# Altium integrated library Analog Devices Operational Amplifiers.IntLib: 2102 symbols (part 31 of 70)
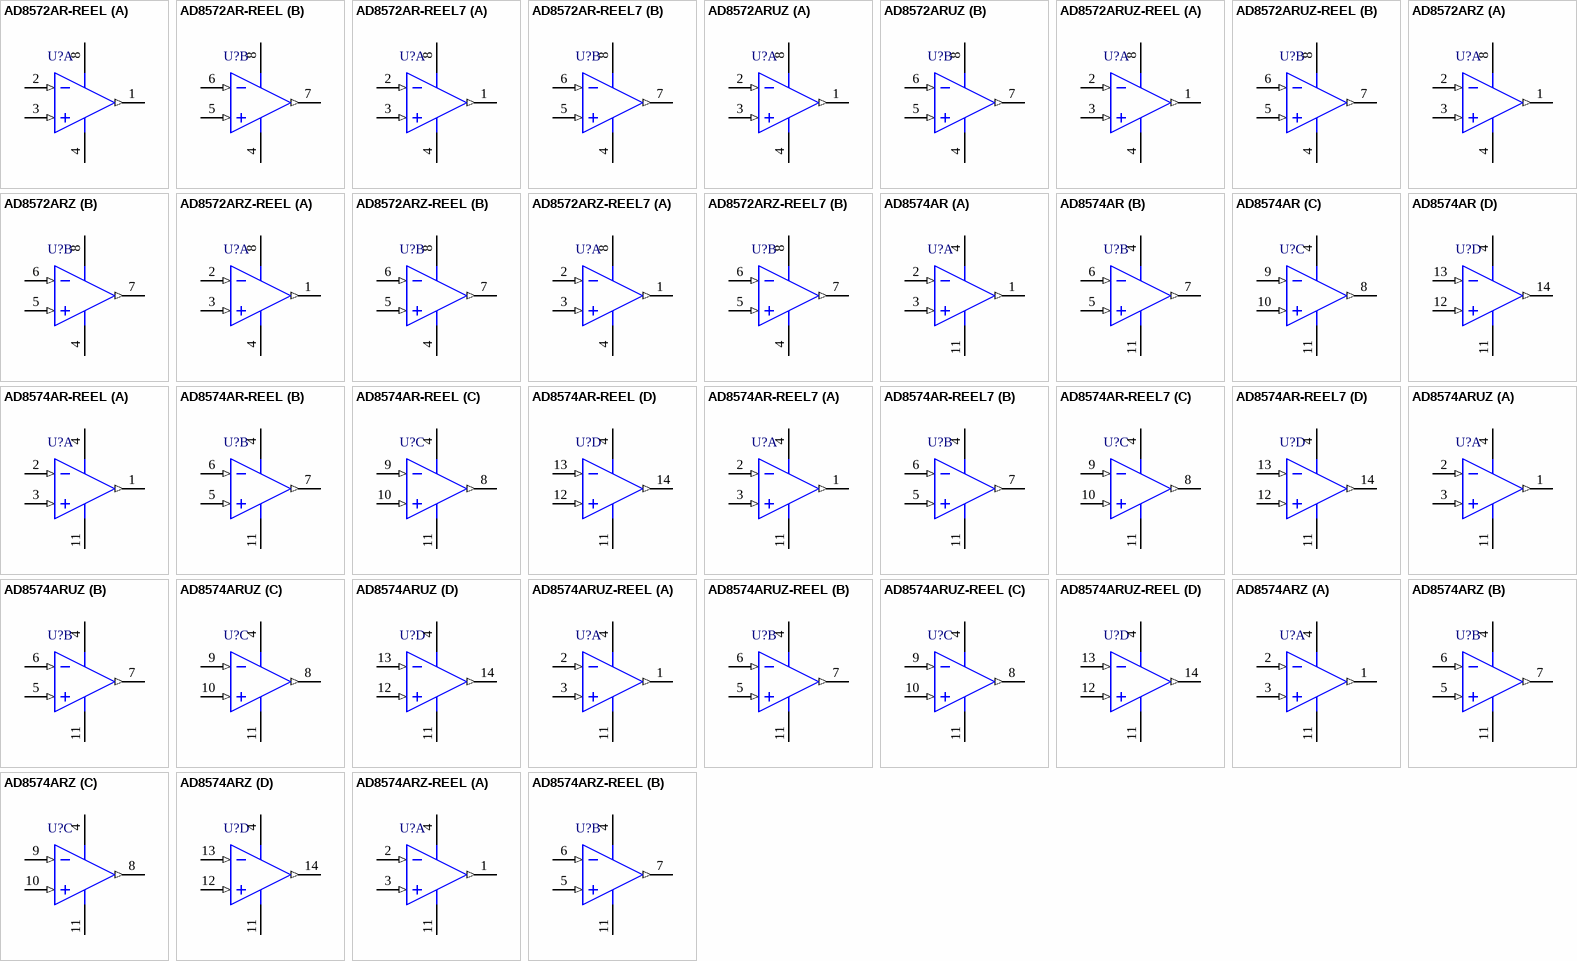
[diagram p144: symbols AD8572AR-REEL to AD8574ARZ-REEL]

## AD8574ARZ
designator U?
Quad Channel Rail-to-Rail Operational Amplifier, 1.5 MHz BW, 400 mV/us SR, Industrial, 14-pin SOIC (R-14), Tube; Generic Part Number: AD8574; Manufacturer: Analog Devices; PartNumber: AD8574ARZ; Amplifiers Per Package: 4; Input Bias Current: 10pA; Input Offset Voltage: 1uV; Iq/Amp: 975uA; Small Signal Bandwidth: 1.5MHz; V Span Max: 6V; V Span Min: 2.7V; DatasheetVersion: Rev. E; PackageVersion: 060606-A; PackageReference: R-14; PackageDescription: 14-Pin Standard Small Outline Package, Body 8.65 x 3.9 mm, Pitch 1.27 mm; Supplier 1: Digi-Key; Supplier Part Number 1: AD8574ARZ-ND; Supplier 2: Farnell; Supplier Part Number 2: 9604294; Supplier 3: Newark; Supplier Part Number 3: 19M0971; Slew Rate: 400mV/us; Mounting Technology: Surface Mount; Code_JEDEC: MS-012-AB; ComponentLink1Description: Manufacturer URL; ComponentLink1URL: http://www.analog.com/en/index.html; ComponentLink2Description: Datasheet; ComponentLink2URL: http://www.analog.com/static/imported-files/data_sheets/AD8571_8572_8574.pdf; ComponentLink3Description: Package Specification; ComponentLink3URL: http://www.analog.com/static/imported-files/packages/PKG_PDF/SOIC_Narrow%20(R)/R_14.pdf
footprint ADI-R-14_N (SOIC, 14-Leads, Body 8.65x3.9mm, Pitch 1.27mm, IPC Medium Density)
footprint ADI-R-14_L (SOIC, 14-Leads, Body 8.65x3.9mm, Pitch 1.27mm, IPC High Density)
footprint ADI-R-14_M (SOIC, 14-Leads, Body 8.65x3.9mm, Pitch 1.27mm, IPC Low Density)
pins on every part: 4 +V (power), 11 -V (power)
part A pins: 1 OUT A (out), 2 -IN A (in), 3 +IN A (in)
part B pins: 5 +IN B (in), 6 -IN B (in), 7 OUT B (out)
part C pins: 8 OUT C (out), 9 -IN C (in), 10 +IN C (in)
part D pins: 12 +IN D (in), 13 -IN D (in), 14 OUT D (out)

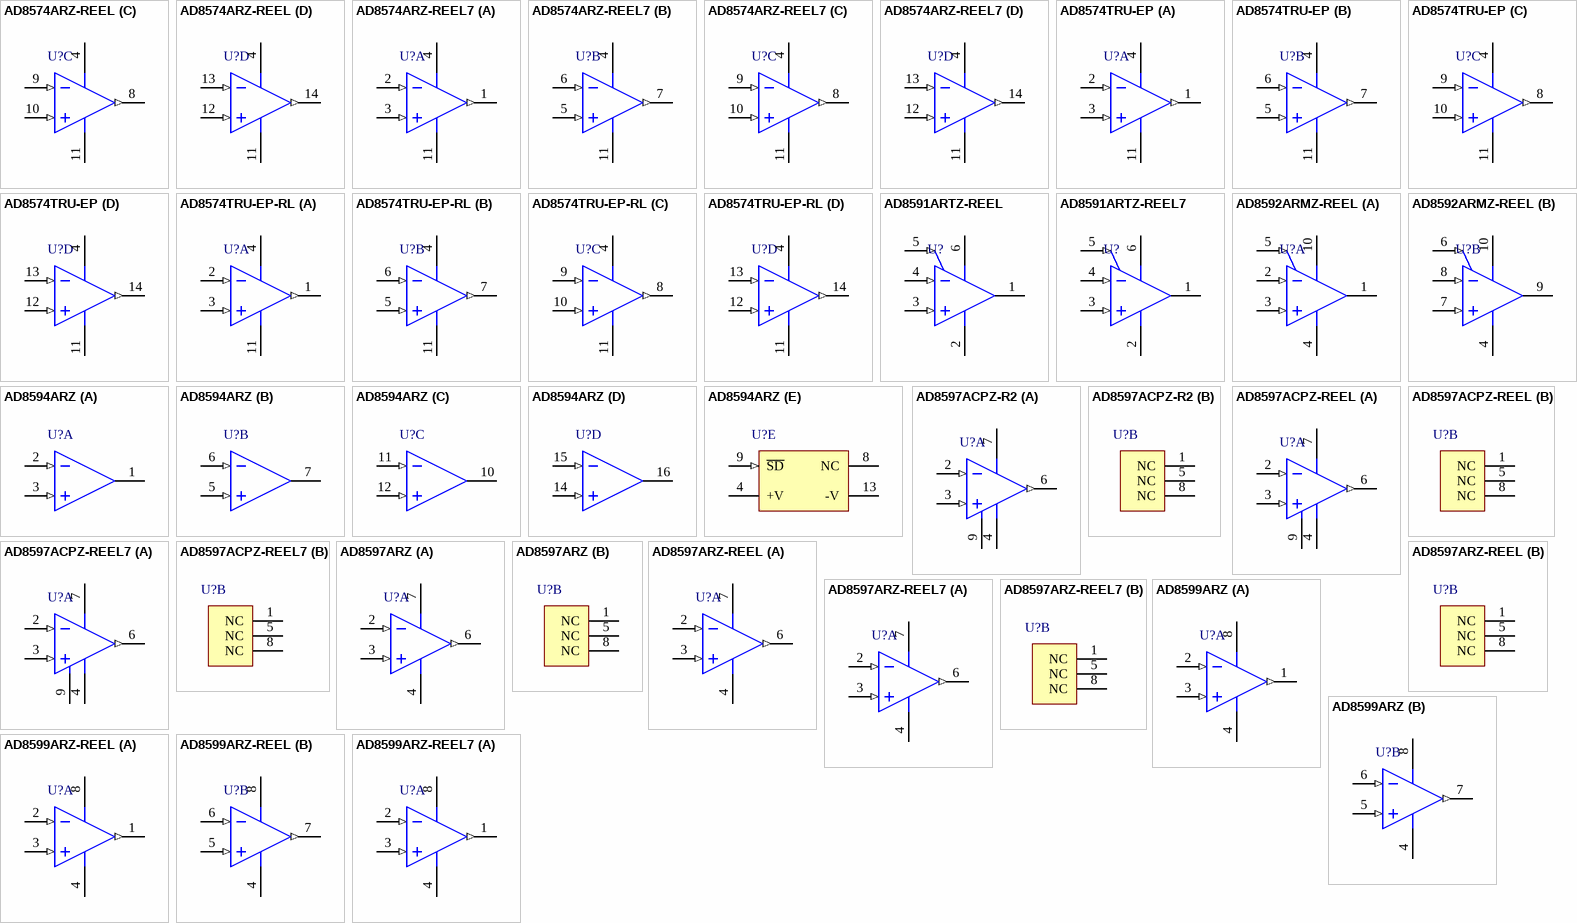
[diagram p46: symbols AD8574ARZ-REEL to AD8599ARZ-REEL7]

## AD8574ARZ-REEL
designator U?
Quad Channel Rail-to-Rail Operational Amplifier, 1.5 MHz BW, 400 mV/us SR, Industrial, 14-pin SOIC (R-14), Reel; Generic Part Number: AD8574; Manufacturer: Analog Devices; PartNumber: AD8574ARZ-REEL; Amplifiers Per Package: 4; Input Bias Current: 10pA; Input Offset Voltage: 1uV; Iq/Amp: 975uA; Small Signal Bandwidth: 1.5MHz; V Span Max: 6V; V Span Min: 2.7V; DatasheetVersion: Rev. E; PackageVersion: 060606-A; PackageReference: R-14; PackageDescription: 14-Pin Standard Small Outline Package, Body 8.65 x 3.9 mm, Pitch 1.27 mm; Supplier 1: Digi-Key; Supplier Part Number 1: AD8574ARZ-REEL-ND; Slew Rate: 400mV/us; Mounting Technology: Surface Mount; Code_JEDEC: MS-012-AB; ComponentLink1Description: Manufacturer URL; ComponentLink1URL: http://www.analog.com/en/index.html; ComponentLink2Description: Datasheet; ComponentLink2URL: http://www.analog.com/static/imported-files/data_sheets/AD8571_8572_8574.pdf; ComponentLink3Description: Package Specification; ComponentLink3URL: http://www.analog.com/static/imported-files/packages/PKG_PDF/SOIC_Narrow%20(R)/R_14.pdf
footprint ADI-R-14_N (SOIC, 14-Leads, Body 8.65x3.9mm, Pitch 1.27mm, IPC Medium Density)
footprint ADI-R-14_L (SOIC, 14-Leads, Body 8.65x3.9mm, Pitch 1.27mm, IPC High Density)
footprint ADI-R-14_M (SOIC, 14-Leads, Body 8.65x3.9mm, Pitch 1.27mm, IPC Low Density)
pins on every part: 4 +V (power), 11 -V (power)
part A pins: 1 OUT A (out), 2 -IN A (in), 3 +IN A (in)
part B pins: 5 +IN B (in), 6 -IN B (in), 7 OUT B (out)
part C pins: 8 OUT C (out), 9 -IN C (in), 10 +IN C (in)
part D pins: 12 +IN D (in), 13 -IN D (in), 14 OUT D (out)

## AD8574ARZ-REEL7
designator U?
Quad Channel Rail-to-Rail Operational Amplifier, 1.5 MHz BW, 400 mV/us SR, Industrial, 14-pin SOIC (R-14), Reel; Generic Part Number: AD8574; Manufacturer: Analog Devices; PartNumber: AD8574ARZ-REEL7; Amplifiers Per Package: 4; Input Bias Current: 10pA; Input Offset Voltage: 1uV; Iq/Amp: 975uA; Small Signal Bandwidth: 1.5MHz; V Span Max: 6V; V Span Min: 2.7V; DatasheetVersion: Rev. E; PackageVersion: 060606-A; PackageReference: R-14; PackageDescription: 14-Pin Standard Small Outline Package, Body 8.65 x 3.9 mm, Pitch 1.27 mm; Supplier 1: Digi-Key; Supplier Part Number 1: AD8574ARZ-REEL7-ND; Slew Rate: 400mV/us; Mounting Technology: Surface Mount; Code_JEDEC: MS-012-AB; ComponentLink1Description: Manufacturer URL; ComponentLink1URL: http://www.analog.com/en/index.html; ComponentLink2Description: Datasheet; ComponentLink2URL: http://www.analog.com/static/imported-files/data_sheets/AD8571_8572_8574.pdf; ComponentLink3Description: Package Specification; ComponentLink3URL: http://www.analog.com/static/imported-files/packages/PKG_PDF/SOIC_Narrow%20(R)/R_14.pdf
footprint ADI-R-14_N (SOIC, 14-Leads, Body 8.65x3.9mm, Pitch 1.27mm, IPC Medium Density)
footprint ADI-R-14_L (SOIC, 14-Leads, Body 8.65x3.9mm, Pitch 1.27mm, IPC High Density)
footprint ADI-R-14_M (SOIC, 14-Leads, Body 8.65x3.9mm, Pitch 1.27mm, IPC Low Density)
pins on every part: 4 +V (power), 11 -V (power)
part A pins: 1 OUT A (out), 2 -IN A (in), 3 +IN A (in)
part B pins: 5 +IN B (in), 6 -IN B (in), 7 OUT B (out)
part C pins: 8 OUT C (out), 9 -IN C (in), 10 +IN C (in)
part D pins: 12 +IN D (in), 13 -IN D (in), 14 OUT D (out)

## AD8574TRU-EP
designator U?
Quad Channel RRIO Operational Amplifier, 1.5 MHz BW, 400 mV/us SR, Military, 14-pin SOP (RU-14), Tube; Generic Part Number: AD8574; Manufacturer: Analog Devices; PartNumber: AD8574TRU-EP; Amplifiers Per Package: 4; Input Bias Current: 10pA; Input Offset Voltage: 1uV; Iq/Amp: 975uA; Small Signal Bandwidth: 1.5MHz; V Span Max: 6V; V Span Min: 2.7V; DatasheetVersion: Rev. E; PackageReference: RU-14; PackageDescription: 14-Pin Thin Shrink Small Outline Package, Body 5 x 4.4 mm, Pitch 0.65 mm; Supplier 1: Digi-Key; Supplier Part Number 1: AD8574TRU-EP-ND; Supplier 2: Newark; Supplier Part Number 2: 45T0238; Slew Rate: 400mV/us; Mounting Technology: Surface Mount; Code_JEDEC: MO-153AB-1; ComponentLink1Description: Manufacturer URL; ComponentLink1URL: http://www.analog.com/en/index.html; ComponentLink2Description: Datasheet; ComponentLink2URL: http://www.analog.com/static/imported-files/data_sheets/AD8571_8572_8574.pdf; ComponentLink3Description: Package Specification; ComponentLink3URL: http://www.analog.com/static/imported-files/packages/36057385283879153717235186773RU14.pdf
footprint ADI-RU-14_N (SOP, 14-Leads, Body 5x4.4mm, Pitch 0.65mm, IPC Medium Density)
footprint ADI-RU-14_L (SOP, 14-Leads, Body 5x4.4mm, Pitch 0.65mm, IPC High Density)
footprint ADI-RU-14_M (SOP, 14-Leads, Body 5x4.4mm, Pitch 0.65mm, IPC Low Density)
pins on every part: 4 +V (power), 11 -V (power)
part A pins: 1 OUT A (out), 2 -IN A (in), 3 +IN A (in)
part B pins: 5 +IN B (in), 6 -IN B (in), 7 OUT B (out)
part C pins: 8 OUT C (out), 9 -IN C (in), 10 +IN C (in)
part D pins: 12 +IN D (in), 13 -IN D (in), 14 OUT D (out)

## AD8574TRU-EP-RL
designator U?
Quad Channel RRIO Operational Amplifier, 1.5 MHz BW, 400 mV/us SR, Military, 14-pin SOP (RU-14), Reel; Generic Part Number: AD8574; Manufacturer: Analog Devices; PartNumber: AD8574TRU-EP-RL; Amplifiers Per Package: 4; Input Bias Current: 10pA; Input Offset Voltage: 1uV; Iq/Amp: 975uA; Small Signal Bandwidth: 1.5MHz; V Span Max: 6V; V Span Min: 2.7V; DatasheetVersion: Rev. E; PackageReference: RU-14; PackageDescription: 14-Pin Thin Shrink Small Outline Package, Body 5 x 4.4 mm, Pitch 0.65 mm; Supplier 1: Digi-Key; Supplier Part Number 1: AD8574TRU-EP-RL-ND; Supplier 2: Newark; Supplier Part Number 2: 45T0239; Slew Rate: 400mV/us; Mounting Technology: Surface Mount; Code_JEDEC: MO-153AB-1; ComponentLink1Description: Manufacturer URL; ComponentLink1URL: http://www.analog.com/en/index.html; ComponentLink2Description: Datasheet; ComponentLink2URL: http://www.analog.com/static/imported-files/data_sheets/AD8571_8572_8574.pdf; ComponentLink3Description: Package Specification; ComponentLink3URL: http://www.analog.com/static/imported-files/packages/36057385283879153717235186773RU14.pdf
footprint ADI-RU-14_N (SOP, 14-Leads, Body 5x4.4mm, Pitch 0.65mm, IPC Medium Density)
footprint ADI-RU-14_L (SOP, 14-Leads, Body 5x4.4mm, Pitch 0.65mm, IPC High Density)
footprint ADI-RU-14_M (SOP, 14-Leads, Body 5x4.4mm, Pitch 0.65mm, IPC Low Density)
pins on every part: 4 +V (power), 11 -V (power)
part A pins: 1 OUT A (out), 2 -IN A (in), 3 +IN A (in)
part B pins: 5 +IN B (in), 6 -IN B (in), 7 OUT B (out)
part C pins: 8 OUT C (out), 9 -IN C (in), 10 +IN C (in)
part D pins: 12 +IN D (in), 13 -IN D (in), 14 OUT D (out)

## AD8591ARTZ-REEL
designator U?
Single Channel Wide Bandwidth Operational Amplifier, 5 MHz BW, 3.5 V/us SR, Industrial, 6-pin SOT23 (RJ-6), Reel; Generic Part Number: AD8591; Manufacturer: Analog Devices; PartNumber: AD8591ARTZ-REEL; Amplifiers Per Package: 1; Input Bias Current: 5pA; Input Offset Voltage: 25mV; Iq/Amp: 1.25mA; Small Signal Bandwidth: 5MHz; V Span Max: 6V; V Span Min: 2.5V; DatasheetVersion: Rev. B; PackageVersion: 121608-A; PackageReference: RJ-6; PackageDescription: 6-Pin Small Outline Transistor Package, Body 2.9 x 1.6 mm, Pitch 0.95 mm; Supplier 1: Digi-Key; Supplier Part Number 1: AD8591ARTZ-REEL-ND; Supplier 2: Newark; Supplier Part Number 2: 88H0289; Slew Rate: 3.5V/us; Mounting Technology: Surface Mount; Code_JEDEC: MO-178-AB; ComponentLink1Description: Manufacturer URL; ComponentLink1URL: http://www.analog.com/en/index.html; ComponentLink2Description: Datasheet; ComponentLink2URL: http://www.analog.com/static/imported-files/data_sheets/AD8591_8592_8594.pdf; ComponentLink3Description: Package Specification; ComponentLink3URL: http://www.analog.com/static/imported-files/packages/PKG_PDF/SOT-23(RJ)/RJ_6.pdf
footprint ADI-RJ-6_N (SOT23, 6-Leads, Body 2.9x1.6mm, Pitch 0.95mm, IPC Medium Density)
footprint ADI-RJ-6_L (SOT23, 6-Leads, Body 2.9x1.6mm, Pitch 0.95mm, IPC High Density)
footprint ADI-RJ-6_M (SOT23, 6-Leads, Body 2.9x1.6mm, Pitch 0.95mm, IPC Low Density)
pins: 1 OUT A (hiz), 2 -V (power), 3 +IN A (in), 4 -IN A (in), 5 ~{SD} (in), 6 +V (power)

## AD8591ARTZ-REEL7
designator U?
Single Channel Wide Bandwidth Operational Amplifier, 5 MHz BW, 3.5 V/us SR, Industrial, 6-pin SOT23 (RJ-6), Reel; Generic Part Number: AD8591; Manufacturer: Analog Devices; PartNumber: AD8591ARTZ-REEL7; Amplifiers Per Package: 1; Input Bias Current: 5pA; Input Offset Voltage: 25mV; Iq/Amp: 1.25mA; Small Signal Bandwidth: 5MHz; V Span Max: 6V; V Span Min: 2.5V; DatasheetVersion: Rev. B; PackageVersion: 121608-A; PackageReference: RJ-6; PackageDescription: 6-Pin Small Outline Transistor Package, Body 2.9 x 1.6 mm, Pitch 0.95 mm; Supplier 1: Digi-Key; Supplier Part Number 1: AD8591ARTZ-REEL7TR-ND; Supplier 2: Digi-Key; Supplier Part Number 2: AD8591ARTZ-REEL7CT-ND; Supplier 3: Digi-Key; Supplier Part Number 3: AD8591ARTZ-REEL7DKR-ND; Supplier 4: Newark; Supplier Part Number 4: 67W2755; Supplier 5: Newark; Supplier Part Number 5: 88H0290; Slew Rate: 3.5V/us; Mounting Technology: Surface Mount; Code_JEDEC: MO-178-AB; ComponentLink1Description: Manufacturer URL; ComponentLink1URL: http://www.analog.com/en/index.html; ComponentLink2Description: Datasheet; ComponentLink2URL: http://www.analog.com/static/imported-files/data_sheets/AD8591_8592_8594.pdf; ComponentLink3Description: Package Specification; ComponentLink3URL: http://www.analog.com/static/imported-files/packages/PKG_PDF/SOT-23(RJ)/RJ_6.pdf
footprint ADI-RJ-6_N (SOT23, 6-Leads, Body 2.9x1.6mm, Pitch 0.95mm, IPC Medium Density)
footprint ADI-RJ-6_L (SOT23, 6-Leads, Body 2.9x1.6mm, Pitch 0.95mm, IPC High Density)
footprint ADI-RJ-6_M (SOT23, 6-Leads, Body 2.9x1.6mm, Pitch 0.95mm, IPC Low Density)
pins: 1 OUT A (hiz), 2 -V (power), 3 +IN A (in), 4 -IN A (in), 5 ~{SD} (in), 6 +V (power)

## AD8592ARMZ-REEL
designator U?
Double Channel Wide Bandwidth Operational Amplifier, 2.2 MHz BW, 3.5 V/us SR, Industrial, 10-pin SOP (RM-10), Reel; Generic Part Number: AD8592; Manufacturer: Analog Devices; PartNumber: AD8592ARMZ-REEL; Amplifiers Per Package: 2; Input Bias Current: 5pA; Input Offset Voltage: 25mV; Iq/Amp: 1.25mA; Small Signal Bandwidth: 2.2MHz; V Span Max: 6V; V Span Min: 2.5V; DatasheetVersion: Rev. B; PackageReference: RM-10; PackageDescription: 10-Pin Mini Small Outline Package, Body 3 x 3 mm, Pitch 0.5 mm; Supplier 1: Digi-Key; Supplier Part Number 1: AD8592ARMZ-REELTR-ND; Supplier 2: Digi-Key; Supplier Part Number 2: AD8592ARMZ-REELCT-ND; Supplier 3: Digi-Key; Supplier Part Number 3: AD8592ARMZ-REELDKR-ND; Supplier 4: Farnell; Supplier Part Number 4: 1333259; Supplier 5: Newark; Supplier Part Number 5: 19M8921; Slew Rate: 3.5V/us; Mounting Technology: Surface Mount; Code_JEDEC: MO-187-BA; ComponentLink1Description: Manufacturer URL; ComponentLink1URL: http://www.analog.com/en/index.html; ComponentLink2Description: Datasheet; ComponentLink2URL: http://www.analog.com/static/imported-files/data_sheets/AD8591_8592_8594.pdf; ComponentLink3Description: Package Specification; ComponentLink3URL: http://www.analog.com/static/imported-files/packages/PKG_PDF/MSOP%28RM%29/RM_10.pdf
footprint ADI-RM-10_N (SOP, 10-Leads, Body 3x3mm, Pitch 0.5mm, IPC Medium Density)
footprint ADI-RM-10_L (SOP, 10-Leads, Body 3x3mm, Pitch 0.5mm, IPC High Density)
footprint ADI-RM-10_M (SOP, 10-Leads, Body 3x3mm, Pitch 0.5mm, IPC Low Density)
pins on every part: 4 -V (power), 10 +V (power)
part A pins: 1 OUT A (hiz), 2 -IN A (in), 3 +IN A (in), 5 ~{SDA} (in)
part B pins: 6 ~{SDB} (in), 7 +IN B (in), 8 -IN B (in), 9 OUT B (hiz)

## AD8594ARZ
designator U?
Quad Channel Wide Bandwidth Operational Amplifier, 2.2 MHz BW, 3.5 V/us SR, Industrial, 16-pin SOIC (R-16), Tube; Generic Part Number: AD8594; Manufacturer: Analog Devices; PartNumber: AD8594ARZ; Amplifiers Per Package: 4; Input Bias Current: 5pA; Input Offset Voltage: 25mV; Iq/Amp: 1.25mA; Small Signal Bandwidth: 2.2MHz; V Span Max: 6V; V Span Min: 2.5V; DatasheetVersion: Rev. B; PackageVersion: 060606-A; PackageReference: R-16; PackageDescription: 16-Pin Standard Small Outline Package, Body 9.9 x 3.9 mm, Pitch 1.27 mm; Supplier 1: Digi-Key; Supplier Part Number 1: AD8594ARZ-ND; Supplier 2: Farnell; Supplier Part Number 2: 1333260; Supplier 3: Newark; Supplier Part Number 3: 59K6883; Slew Rate: 3.5V/us; Mounting Technology: Surface Mount; Code_JEDEC: MS-012-AC; ComponentLink1Description: Manufacturer URL; ComponentLink1URL: http://www.analog.com/en/index.html; ComponentLink2Description: Datasheet; ComponentLink2URL: http://www.analog.com/static/imported-files/data_sheets/AD8591_8592_8594.pdf; ComponentLink3Description: Package Specification; ComponentLink3URL: http://www.analog.com/static/imported-files/packages/PKG_PDF/SOIC_Narrow%20(R)/R_16.pdf
footprint ADI-R-16_N (SOIC, 16-Leads, Body 9.9x3.9mm, Pitch 1.27mm, IPC Medium Density)
footprint ADI-R-16_L (SOIC, 16-Leads, Body 9.9x3.9mm, Pitch 1.27mm, IPC High Density)
footprint ADI-R-16_M (SOIC, 16-Leads, Body 9.9x3.9mm, Pitch 1.27mm,IPC Low Density)
part A pins: 1 OUT A (hiz), 2 -IN A (in), 3 +IN A (in)
part B pins: 5 +IN B (in), 6 -IN B (in), 7 OUT B (hiz)
part C pins: 10 OUT C (hiz), 11 -IN C (in), 12 +IN C (in)
part D pins: 14 +IN D (in), 15 -IN D (in), 16 OUT D (hiz)
part E pins: 4 +V (power), 8 NC, 9 ~{SD} (in), 13 -V (power)

## AD8597ACPZ-R2
designator U?
Single Channel Wide Bandwidth Operational Amplifier, 10 MHz BW, 16 V/us SR, Industrial, 8-pin QFN (CP-8-2), Reel; Generic Part Number: AD8597; Manufacturer: Analog Devices; PartNumber: AD8597ACPZ-R2; Amplifiers Per Package: 1; Input Bias Current: 25nA; Input Offset Voltage: 10uV; Iq/Amp: 5mA; Slew Rate: 16V/us; Small Signal Bandwidth: 10MHz; V Span Max: 36V; V Span Min: 10V; DatasheetVersion: Rev. C; PackageVersion: 061507-B; PackageReference: CP-8-2; PackageDescription: 8-Pin Lead Frame Chip Scale Package, Body 3 x 3 mm, Pitch 0.5 mm; Supplier 1: Digi-Key; Supplier Part Number 1: AD8597ACPZ-R2-ND; Supplier 2: Newark; Supplier Part Number 2: 11R1053; Mounting Technology: Surface Mount; ComponentLink1Description: Manufacturer URL; ComponentLink1URL: http://www.analog.com/en/index.html; ComponentLink2Description: Datasheet; ComponentLink2URL: http://www.analog.com/static/imported-files/data_sheets/AD8597_8599.pdf; ComponentLink3Description: Package Specification; ComponentLink3URL: http://www.analog.com/static/imported-files/packages/56953322593982CP_8_2.pdf; ComponentLink4Description: Reference Circuit; ComponentLink4URL: http://www.analog.com/en/all-operational-amplifiers-op-amps/operational-amplifiers-op-amps/ad8597/products/product.html#product-recommendations
footprint ADI-CP-8-2_N (QFN, 8-Leads, Body 3x3mm, Pitch 0.5mm, Thermal Pad 1.45X1.74mm, IPC Medium Density)
footprint ADI-CP-8-2_L (QFN, 8-Leads, Body 3x3mm, Pitch 0.5mm, Thermal Pad 1.45X1.74mm, IPC High Density)
footprint ADI-CP-8-2_M (QFN, 8-Leads, Body 3x3mm, Pitch 0.5mm, Thermal Pad 1.45X1.74mm, IPC Low Density)
part A pins: 2 -IN (in), 3 +IN (in), 4 -V (power), 6 OUT (out), 7 +V (power), 9 EP (power)
part B pins: 1 NC, 5 NC, 8 NC

## AD8597ACPZ-REEL
designator U?
Single Channel Wide Bandwidth Operational Amplifier, 10 MHz BW, 16 V/us SR, Industrial, 8-pin QFN (CP-8-2), Reel; Generic Part Number: AD8597; Manufacturer: Analog Devices; PartNumber: AD8597ACPZ-REEL; Amplifiers Per Package: 1; Input Bias Current: 25nA; Input Offset Voltage: 10uV; Iq/Amp: 5mA; Slew Rate: 16V/us; Small Signal Bandwidth: 10MHz; V Span Max: 36V; V Span Min: 10V; DatasheetVersion: Rev. C; PackageVersion: 061507-B; PackageReference: CP-8-2; PackageDescription: 8-Pin Lead Frame Chip Scale Package, Body 3 x 3 mm, Pitch 0.5 mm; Supplier 1: Digi-Key; Supplier Part Number 1: AD8597ACPZ-REEL-ND; Mounting Technology: Surface Mount; ComponentLink1Description: Manufacturer URL; ComponentLink1URL: http://www.analog.com/en/index.html; ComponentLink2Description: Datasheet; ComponentLink2URL: http://www.analog.com/static/imported-files/data_sheets/AD8597_8599.pdf; ComponentLink3Description: Package Specification; ComponentLink3URL: http://www.analog.com/static/imported-files/packages/56953322593982CP_8_2.pdf; ComponentLink4Description: Reference Circuit; ComponentLink4URL: http://www.analog.com/en/all-operational-amplifiers-op-amps/operational-amplifiers-op-amps/ad8597/products/product.html#product-recommendations
footprint ADI-CP-8-2_N (QFN, 8-Leads, Body 3x3mm, Pitch 0.5mm, Thermal Pad 1.45X1.74mm, IPC Medium Density)
footprint ADI-CP-8-2_L (QFN, 8-Leads, Body 3x3mm, Pitch 0.5mm, Thermal Pad 1.45X1.74mm, IPC High Density)
footprint ADI-CP-8-2_M (QFN, 8-Leads, Body 3x3mm, Pitch 0.5mm, Thermal Pad 1.45X1.74mm, IPC Low Density)
part A pins: 2 -IN (in), 3 +IN (in), 4 -V (power), 6 OUT (out), 7 +V (power), 9 EP (power)
part B pins: 1 NC, 5 NC, 8 NC

## AD8597ACPZ-REEL7
designator U?
Single Channel Wide Bandwidth Operational Amplifier, 10 MHz BW, 16 V/us SR, Industrial, 8-pin QFN (CP-8-2), Reel; Generic Part Number: AD8597; Manufacturer: Analog Devices; PartNumber: AD8597ACPZ-REEL7; Amplifiers Per Package: 1; Input Bias Current: 25nA; Input Offset Voltage: 10uV; Iq/Amp: 5mA; Slew Rate: 16V/us; Small Signal Bandwidth: 10MHz; V Span Max: 36V; V Span Min: 10V; DatasheetVersion: Rev. C; PackageVersion: 061507-B; PackageReference: CP-8-2; PackageDescription: 8-Pin Lead Frame Chip Scale Package, Body 3 x 3 mm, Pitch 0.5 mm; Supplier 1: Digi-Key; Supplier Part Number 1: AD8597ACPZ-REEL7-ND; Supplier 2: Newark; Supplier Part Number 2: 11R1052; Mounting Technology: Surface Mount; ComponentLink1Description: Manufacturer URL; ComponentLink1URL: http://www.analog.com/en/index.html; ComponentLink2Description: Datasheet; ComponentLink2URL: http://www.analog.com/static/imported-files/data_sheets/AD8597_8599.pdf; ComponentLink3Description: Package Specification; ComponentLink3URL: http://www.analog.com/static/imported-files/packages/56953322593982CP_8_2.pdf; ComponentLink4Description: Reference Circuit; ComponentLink4URL: http://www.analog.com/en/all-operational-amplifiers-op-amps/operational-amplifiers-op-amps/ad8597/products/product.html#product-recommendations
footprint ADI-CP-8-2_N (QFN, 8-Leads, Body 3x3mm, Pitch 0.5mm, Thermal Pad 1.45X1.74mm, IPC Medium Density)
footprint ADI-CP-8-2_L (QFN, 8-Leads, Body 3x3mm, Pitch 0.5mm, Thermal Pad 1.45X1.74mm, IPC High Density)
footprint ADI-CP-8-2_M (QFN, 8-Leads, Body 3x3mm, Pitch 0.5mm, Thermal Pad 1.45X1.74mm, IPC Low Density)
part A pins: 2 -IN (in), 3 +IN (in), 4 -V (power), 6 OUT (out), 7 +V (power), 9 EP (power)
part B pins: 1 NC, 5 NC, 8 NC

## AD8597ARZ
designator U?
Single Channel Wide Bandwidth Operational Amplifier, 10 MHz BW, 16 V/us SR, Industrial, 8-pin SOIC (R-8), Tube; Generic Part Number: AD8597; Manufacturer: Analog Devices; PartNumber: AD8597ARZ; Amplifiers Per Package: 1; Input Bias Current: 25nA; Input Offset Voltage: 10uV; Iq/Amp: 5mA; Slew Rate: 16V/us; Small Signal Bandwidth: 10MHz; V Span Max: 36V; V Span Min: 10V; DatasheetVersion: Rev. C; PackageVersion: 060506-A; PackageReference: R-8; PackageDescription: 8-Pin Standard Small Outline Package, Body 3.9 x 4.9 mm, Pitch 1.27 mm; Supplier 1: Digi-Key; Supplier Part Number 1: AD8597ARZ-ND; Supplier 2: Farnell; Supplier Part Number 2: 2102524; Supplier 3: Newark; Supplier Part Number 3: 19P8303; Mounting Technology: Surface Mount; Code_JEDEC: MS-012-AA; ComponentLink1Description: Manufacturer URL; ComponentLink1URL: http://www.analog.com/en/index.html; ComponentLink2Description: Datasheet; ComponentLink2URL: http://www.analog.com/static/imported-files/data_sheets/AD8597_8599.pdf; ComponentLink3Description: Package Specification; ComponentLink3URL: http://www.analog.com/static/imported-files/packages/PKG_PDF/SOIC_Narrow%20(R)/R_8.pdf; ComponentLink4Description: Reference Circuit; ComponentLink4URL: http://www.analog.com/en/all-operational-amplifiers-op-amps/operational-amplifiers-op-amps/ad8597/products/product.html#product-recommendations
footprint ADI-R-8_N (SOIC, 8-Leads, Body 4.9x3.9mm, Pitch 1.27mm, IPC Medium Density)
footprint ADI-R-8_L (SOIC, 8-Leads, Body 4.9x3.9mm, Pitch 1.27mm, IPC High Density)
footprint ADI-R-8_M (SOIC, 8-Leads, Body 4.9x3.9mm, Pitch 1.27mm, IPC Low Density)
part A pins: 2 -IN (in), 3 +IN (in), 4 -V (power), 6 OUT (out), 7 +V (power)
part B pins: 1 NC, 5 NC, 8 NC

## AD8597ARZ-REEL
designator U?
Single Channel Wide Bandwidth Operational Amplifier, 10 MHz BW, 16 V/us SR, Industrial, 8-pin SOIC (R-8), Reel; Generic Part Number: AD8597; Manufacturer: Analog Devices; PartNumber: AD8597ARZ-REEL; Amplifiers Per Package: 1; Input Bias Current: 25nA; Input Offset Voltage: 10uV; Iq/Amp: 5mA; Slew Rate: 16V/us; Small Signal Bandwidth: 10MHz; V Span Max: 36V; V Span Min: 10V; DatasheetVersion: Rev. C; PackageVersion: 060506-A; PackageReference: R-8; PackageDescription: 8-Pin Standard Small Outline Package, Body 3.9 x 4.9 mm, Pitch 1.27 mm; Supplier 1: Digi-Key; Supplier Part Number 1: AD8597ARZ-REEL-ND; Supplier 2: Newark; Supplier Part Number 2: 19P8304; Mounting Technology: Surface Mount; Code_JEDEC: MS-012-AA; ComponentLink1Description: Manufacturer URL; ComponentLink1URL: http://www.analog.com/en/index.html; ComponentLink2Description: Datasheet; ComponentLink2URL: http://www.analog.com/static/imported-files/data_sheets/AD8597_8599.pdf; ComponentLink3Description: Package Specification; ComponentLink3URL: http://www.analog.com/static/imported-files/packages/PKG_PDF/SOIC_Narrow%20(R)/R_8.pdf; ComponentLink4Description: Reference Circuit; ComponentLink4URL: http://www.analog.com/en/all-operational-amplifiers-op-amps/operational-amplifiers-op-amps/ad8597/products/product.html#product-recommendations
footprint ADI-R-8_N (SOIC, 8-Leads, Body 4.9x3.9mm, Pitch 1.27mm, IPC Medium Density)
footprint ADI-R-8_L (SOIC, 8-Leads, Body 4.9x3.9mm, Pitch 1.27mm, IPC High Density)
footprint ADI-R-8_M (SOIC, 8-Leads, Body 4.9x3.9mm, Pitch 1.27mm, IPC Low Density)
part A pins: 2 -IN (in), 3 +IN (in), 4 -V (power), 6 OUT (out), 7 +V (power)
part B pins: 1 NC, 5 NC, 8 NC

## AD8597ARZ-REEL7
designator U?
Single Channel Wide Bandwidth Operational Amplifier, 10 MHz BW, 16 V/us SR, Industrial, 8-pin SOIC (R-8), Reel; Generic Part Number: AD8597; Manufacturer: Analog Devices; PartNumber: AD8597ARZ-REEL7; Amplifiers Per Package: 1; Input Bias Current: 25nA; Input Offset Voltage: 10uV; Iq/Amp: 5mA; Slew Rate: 16V/us; Small Signal Bandwidth: 10MHz; V Span Max: 36V; V Span Min: 10V; DatasheetVersion: Rev. C; PackageVersion: 060506-A; PackageReference: R-8; PackageDescription: 8-Pin Standard Small Outline Package, Body 3.9 x 4.9 mm, Pitch 1.27 mm; Supplier 1: Digi-Key; Supplier Part Number 1: AD8597ARZ-REEL7-ND; Supplier 2: Newark; Supplier Part Number 2: 19P8305; Mounting Technology: Surface Mount; Code_JEDEC: MS-012-AA; ComponentLink1Description: Manufacturer URL; ComponentLink1URL: http://www.analog.com/en/index.html; ComponentLink2Description: Datasheet; ComponentLink2URL: http://www.analog.com/static/imported-files/data_sheets/AD8597_8599.pdf; ComponentLink3Description: Package Specification; ComponentLink3URL: http://www.analog.com/static/imported-files/packages/PKG_PDF/SOIC_Narrow%20(R)/R_8.pdf; ComponentLink4Description: Reference Circuit; ComponentLink4URL: http://www.analog.com/en/all-operational-amplifiers-op-amps/operational-amplifiers-op-amps/ad8597/products/product.html#product-recommendations
footprint ADI-R-8_N (SOIC, 8-Leads, Body 4.9x3.9mm, Pitch 1.27mm, IPC Medium Density)
footprint ADI-R-8_L (SOIC, 8-Leads, Body 4.9x3.9mm, Pitch 1.27mm, IPC High Density)
footprint ADI-R-8_M (SOIC, 8-Leads, Body 4.9x3.9mm, Pitch 1.27mm, IPC Low Density)
part A pins: 2 -IN (in), 3 +IN (in), 4 -V (power), 6 OUT (out), 7 +V (power)
part B pins: 1 NC, 5 NC, 8 NC

## AD8599ARZ
designator U?
Double Channel Wide Bandwidth Operational Amplifier, 10 MHz BW, 16 V/us SR, Industrial, 8-pin SOIC (R-8), Tube; Generic Part Number: AD8599; Manufacturer: Analog Devices; PartNumber: AD8599ARZ; Amplifiers Per Package: 2; Input Bias Current: 25nA; Input Offset Voltage: 10uV; Iq/Amp: 5.7mA; Slew Rate: 14V/us; Small Signal Bandwidth: 10MHz; V Span Max: 30V; V Span Min: 9V; DatasheetVersion: Rev. C; PackageVersion: 060506-A; PackageReference: R-8; PackageDescription: 8-Pin Standard Small Outline Package, Body 3.9 x 4.9 mm, Pitch 1.27 mm; Supplier 1: Digi-Key; Supplier Part Number 1: AD8599ARZ-ND; Supplier 2: Farnell; Supplier Part Number 2: 1438872; Supplier 3: Newark; Supplier Part Number 3: 34M5072; Mounting Technology: Surface Mount; Code_JEDEC: MS-012-AA; ComponentLink1Description: Manufacturer URL; ComponentLink1URL: http://www.analog.com/en/index.html; ComponentLink2Description: Datasheet; ComponentLink2URL: http://www.analog.com/static/imported-files/data_sheets/AD8597_8599.pdf; ComponentLink3Description: Package Specification; ComponentLink3URL: http://www.analog.com/static/imported-files/packages/PKG_PDF/SOIC_Narrow%20(R)/R_8.pdf; ComponentLink4Description: Reference Circuit; ComponentLink4URL: http://www.analog.com/en/all-operational-amplifiers-op-amps/operational-amplifiers-op-amps/ad8599/products/product.html#product-recommendations
footprint ADI-R-8_N (SOIC, 8-Leads, Body 4.9x3.9mm, Pitch 1.27mm, IPC Medium Density)
footprint ADI-R-8_L (SOIC, 8-Leads, Body 4.9x3.9mm, Pitch 1.27mm, IPC High Density)
footprint ADI-R-8_M (SOIC, 8-Leads, Body 4.9x3.9mm, Pitch 1.27mm, IPC Low Density)
pins on every part: 4 -V (power), 8 +V (power)
part A pins: 1 OUT A (out), 2 -IN A (in), 3 +IN A (in)
part B pins: 5 +IN B (in), 6 -IN B (in), 7 OUT B (out)

## AD8599ARZ-REEL
designator U?
Double Channel Wide Bandwidth Operational Amplifier, 10 MHz BW, 16 V/us SR, Industrial, 8-pin SOIC (R-8), Reel; Generic Part Number: AD8599; Manufacturer: Analog Devices; PartNumber: AD8599ARZ-REEL; Amplifiers Per Package: 2; Input Bias Current: 25nA; Input Offset Voltage: 10uV; Iq/Amp: 5.7mA; Slew Rate: 14V/us; Small Signal Bandwidth: 10MHz; V Span Max: 30V; V Span Min: 9V; DatasheetVersion: Rev. C; PackageVersion: 060506-A; PackageReference: R-8; PackageDescription: 8-Pin Standard Small Outline Package, Body 3.9 x 4.9 mm, Pitch 1.27 mm; Supplier 1: Digi-Key; Supplier Part Number 1: AD8599ARZ-REEL-ND; Supplier 2: Newark; Supplier Part Number 2: 34M5073; Mounting Technology: Surface Mount; Code_JEDEC: MS-012-AA; ComponentLink1Description: Manufacturer URL; ComponentLink1URL: http://www.analog.com/en/index.html; ComponentLink2Description: Datasheet; ComponentLink2URL: http://www.analog.com/static/imported-files/data_sheets/AD8597_8599.pdf; ComponentLink3Description: Package Specification; ComponentLink3URL: http://www.analog.com/static/imported-files/packages/PKG_PDF/SOIC_Narrow%20(R)/R_8.pdf; ComponentLink4Description: Reference Circuit; ComponentLink4URL: http://www.analog.com/en/all-operational-amplifiers-op-amps/operational-amplifiers-op-amps/ad8599/products/product.html#product-recommendations
footprint ADI-R-8_N (SOIC, 8-Leads, Body 4.9x3.9mm, Pitch 1.27mm, IPC Medium Density)
footprint ADI-R-8_L (SOIC, 8-Leads, Body 4.9x3.9mm, Pitch 1.27mm, IPC High Density)
footprint ADI-R-8_M (SOIC, 8-Leads, Body 4.9x3.9mm, Pitch 1.27mm, IPC Low Density)
pins on every part: 4 -V (power), 8 +V (power)
part A pins: 1 OUT A (out), 2 -IN A (in), 3 +IN A (in)
part B pins: 5 +IN B (in), 6 -IN B (in), 7 OUT B (out)

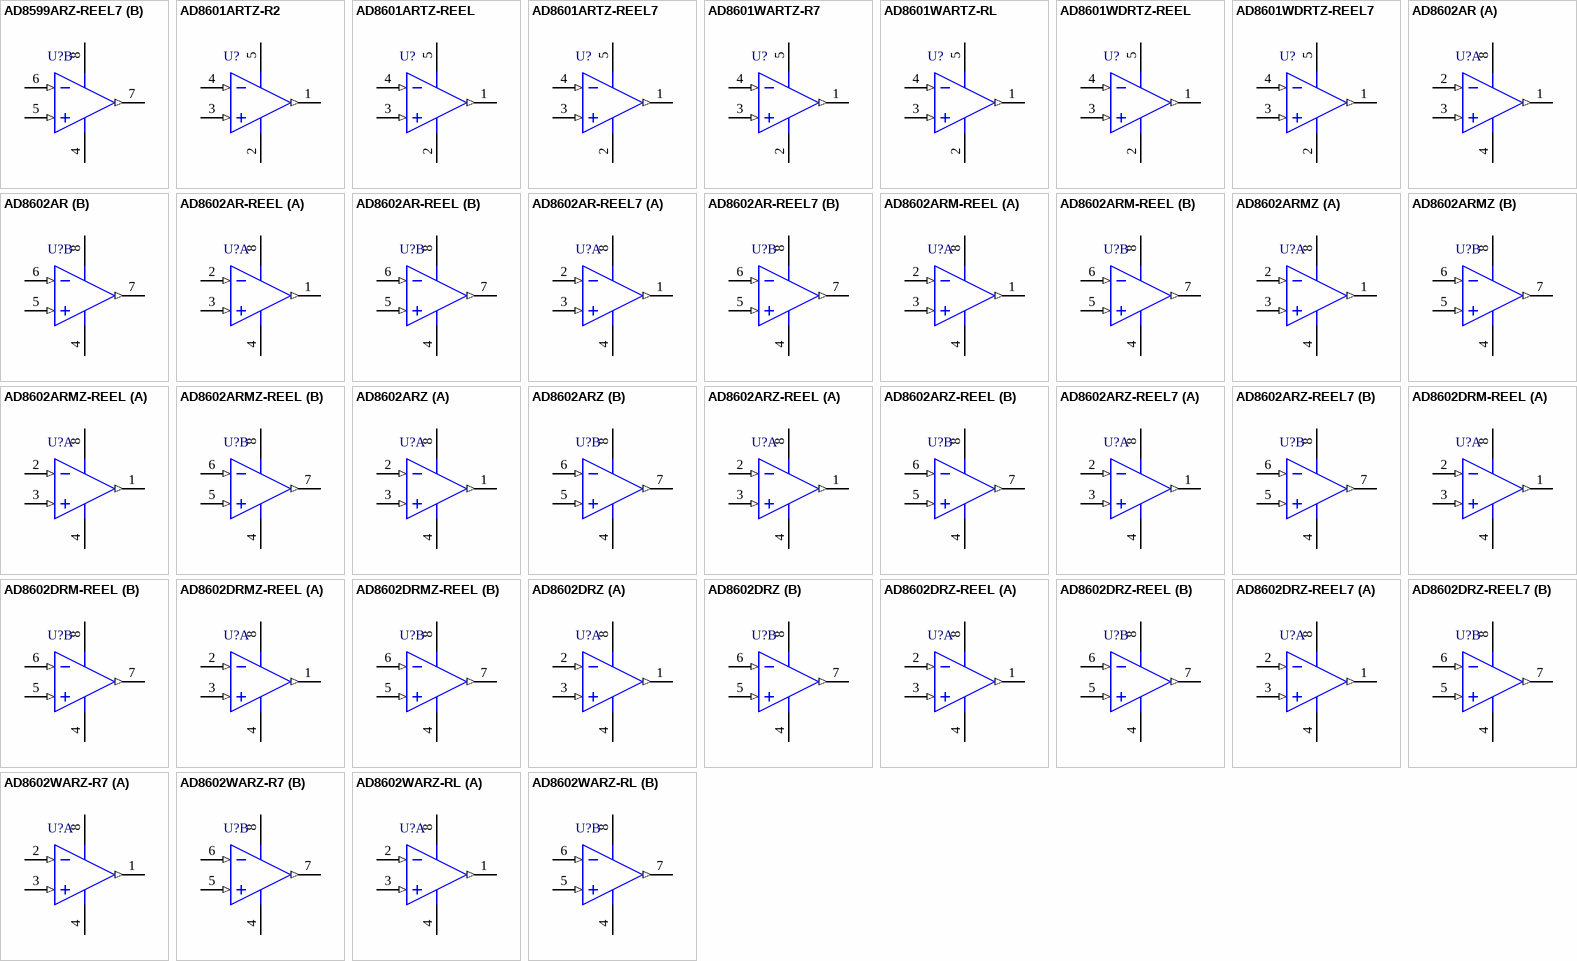
[diagram p47: symbols AD8599ARZ-REEL7 to AD8602WARZ-RL]

## AD8599ARZ-REEL7
designator U?
Double Channel Wide Bandwidth Operational Amplifier, 10 MHz BW, 16 V/us SR, Industrial, 8-pin SOIC (R-8), Reel; Generic Part Number: AD8599; Manufacturer: Analog Devices; PartNumber: AD8599ARZ-REEL7; Amplifiers Per Package: 2; Input Bias Current: 25nA; Input Offset Voltage: 10uV; Iq/Amp: 5.7mA; Slew Rate: 14V/us; Small Signal Bandwidth: 10MHz; V Span Max: 30V; V Span Min: 9V; DatasheetVersion: Rev. C; PackageVersion: 060506-A; PackageReference: R-8; PackageDescription: 8-Pin Standard Small Outline Package, Body 3.9 x 4.9 mm, Pitch 1.27 mm; Supplier 1: Digi-Key; Supplier Part Number 1: AD8599ARZ-REEL7TR-ND; Supplier 2: Digi-Key; Supplier Part Number 2: AD8599ARZ-REEL7CT-ND; Supplier 3: Digi-Key; Supplier Part Number 3: AD8599ARZ-REEL7DKR-ND; Supplier 4: Newark; Supplier Part Number 4: 34M5074; Mounting Technology: Surface Mount; Code_JEDEC: MS-012-AA; ComponentLink1Description: Manufacturer URL; ComponentLink1URL: http://www.analog.com/en/index.html; ComponentLink2Description: Datasheet; ComponentLink2URL: http://www.analog.com/static/imported-files/data_sheets/AD8597_8599.pdf; ComponentLink3Description: Package Specification; ComponentLink3URL: http://www.analog.com/static/imported-files/packages/PKG_PDF/SOIC_Narrow%20(R)/R_8.pdf; ComponentLink4Description: Reference Circuit; ComponentLink4URL: http://www.analog.com/en/all-operational-amplifiers-op-amps/operational-amplifiers-op-amps/ad8599/products/product.html#product-recommendations
footprint ADI-R-8_N (SOIC, 8-Leads, Body 4.9x3.9mm, Pitch 1.27mm, IPC Medium Density)
footprint ADI-R-8_L (SOIC, 8-Leads, Body 4.9x3.9mm, Pitch 1.27mm, IPC High Density)
footprint ADI-R-8_M (SOIC, 8-Leads, Body 4.9x3.9mm, Pitch 1.27mm, IPC Low Density)
pins on every part: 4 -V (power), 8 +V (power)
part A pins: 1 OUT A (out), 2 -IN A (in), 3 +IN A (in)
part B pins: 5 +IN B (in), 6 -IN B (in), 7 OUT B (out)

## AD8601ARTZ-R2
designator U?
Single Channel Wide Bandwidth Operational Amplifier, 8.4 MHz BW, 6 V/us SR, Industrial, 5-pin SOT23 (RJ-5), Reel; Generic Part Number: AD8601; Manufacturer: Analog Devices; PartNumber: AD8601ARTZ-R2; Amplifiers Per Package: 1; Automotive Qualified: Yes; Input Bias Current: 200fA; Input Offset Voltage: 80uV; Iq/Amp: 1.2mA; Slew Rate: 6V/us; Small Signal Bandwidth: 8.4MHz; V Span Max: 5.5V; V Span Min: 2.7V; DatasheetVersion: Rev. G; PackageVersion: 121608-A; PackageReference: RJ-5; PackageDescription: 5-Pin Small Outline Transistor Package, Body 2.9 x 1.6 mm, Pitch 0.95 mm; Supplier 1: Digi-Key; Supplier Part Number 1: AD8601ARTZ-R2TR-ND; Supplier 2: Digi-Key; Supplier Part Number 2: AD8601ARTZ-R2CT-ND; Supplier 3: Digi-Key; Supplier Part Number 3: AD8601ARTZ-R2DKR-ND; Supplier 4: Farnell; Supplier Part Number 4: 1319466; Supplier 5: Newark; Supplier Part Number 5: 19M8922; Mounting Technology: Surface Mount; Code_JEDEC: MO-178-AA; ComponentLink1Description: Manufacturer URL; ComponentLink1URL: http://www.analog.com/en/index.html; ComponentLink2Description: Datasheet; ComponentLink2URL: http://www.analog.com/static/imported-files/data_sheets/AD8601_8602_8604.pdf; ComponentLink3Description: Package Specification; ComponentLink3URL: http://www.analog.com/static/imported-files/packages/PKG_PDF/SOT-23(RJ)/RJ_5.pdf; ComponentLink4Description: Reference Circuit; ComponentLink4URL: http://www.analog.com/en/all-operational-amplifiers-op-amps/operational-amplifiers-op-amps/ad8601/products/product.html#product-recommendations
footprint ADI-RJ-5_N (SOT-23, 5-Leads, Body 2.9x1.6mm, Pitch 0.95mm, IPC Medium Density)
footprint ADI-RJ-5_L (SOT-23, 5-Leads, Body 2.9x1.6mm, Pitch 0.95mm, IPC High Density)
footprint ADI-RJ-5_M (SOT-23, 5-Leads, Body 2.9x1.6mm, Pitch 0.95mm, IPC Low Density)
pins: 1 OUT A (out), 2 -V (power), 3 +IN (in), 4 -IN (in), 5 +V (power)

## AD8601ARTZ-REEL
designator U?
Single Channel Wide Bandwidth Operational Amplifier, 8.4 MHz BW, 6 V/us SR, Industrial, 5-pin SOT23 (RJ-5), Reel; Generic Part Number: AD8601; Manufacturer: Analog Devices; PartNumber: AD8601ARTZ-REEL; Amplifiers Per Package: 1; Automotive Qualified: Yes; Input Bias Current: 200fA; Input Offset Voltage: 80uV; Iq/Amp: 1.2mA; Slew Rate: 6V/us; Small Signal Bandwidth: 8.4MHz; V Span Max: 5.5V; V Span Min: 2.7V; DatasheetVersion: Rev. G; PackageVersion: 121608-A; PackageReference: RJ-5; PackageDescription: 5-Pin Small Outline Transistor Package, Body 2.9 x 1.6 mm, Pitch 0.95 mm; Supplier 1: Digi-Key; Supplier Part Number 1: AD8601ARTZ-REEL-ND; Mounting Technology: Surface Mount; Code_JEDEC: MO-178-AA; ComponentLink1Description: Manufacturer URL; ComponentLink1URL: http://www.analog.com/en/index.html; ComponentLink2Description: Datasheet; ComponentLink2URL: http://www.analog.com/static/imported-files/data_sheets/AD8601_8602_8604.pdf; ComponentLink3Description: Package Specification; ComponentLink3URL: http://www.analog.com/static/imported-files/packages/PKG_PDF/SOT-23(RJ)/RJ_5.pdf; ComponentLink4Description: Reference Circuit; ComponentLink4URL: http://www.analog.com/en/all-operational-amplifiers-op-amps/operational-amplifiers-op-amps/ad8601/products/product.html#product-recommendations
footprint ADI-RJ-5_N (SOT-23, 5-Leads, Body 2.9x1.6mm, Pitch 0.95mm, IPC Medium Density)
footprint ADI-RJ-5_L (SOT-23, 5-Leads, Body 2.9x1.6mm, Pitch 0.95mm, IPC High Density)
footprint ADI-RJ-5_M (SOT-23, 5-Leads, Body 2.9x1.6mm, Pitch 0.95mm, IPC Low Density)
pins: 1 OUT A (out), 2 -V (power), 3 +IN (in), 4 -IN (in), 5 +V (power)

## AD8601ARTZ-REEL7
designator U?
Single Channel Wide Bandwidth Operational Amplifier, 8.4 MHz BW, 6 V/us SR, Industrial, 5-pin SOT23 (RJ-5), Reel; Generic Part Number: AD8601; Manufacturer: Analog Devices; PartNumber: AD8601ARTZ-REEL7; Amplifiers Per Package: 1; Automotive Qualified: Yes; Input Bias Current: 200fA; Input Offset Voltage: 80uV; Iq/Amp: 1.2mA; Slew Rate: 6V/us; Small Signal Bandwidth: 8.4MHz; V Span Max: 5.5V; V Span Min: 2.7V; DatasheetVersion: Rev. G; PackageVersion: 121608-A; PackageReference: RJ-5; PackageDescription: 5-Pin Small Outline Transistor Package, Body 2.9 x 1.6 mm, Pitch 0.95 mm; Supplier 1: Digi-Key; Supplier Part Number 1: AD8601ARTZREEL7TR-ND; Supplier 2: Digi-Key; Supplier Part Number 2: AD8601ARTZREEL7CT-ND; Supplier 3: Digi-Key; Supplier Part Number 3: AD8601ARTZREEL7DKR-ND; Supplier 4: Newark; Supplier Part Number 4: 59K6889; Mounting Technology: Surface Mount; Code_JEDEC: MO-178-AA; ComponentLink1Description: Manufacturer URL; ComponentLink1URL: http://www.analog.com/en/index.html; ComponentLink2Description: Datasheet; ComponentLink2URL: http://www.analog.com/static/imported-files/data_sheets/AD8601_8602_8604.pdf; ComponentLink3Description: Package Specification; ComponentLink3URL: http://www.analog.com/static/imported-files/packages/PKG_PDF/SOT-23(RJ)/RJ_5.pdf; ComponentLink4Description: Reference Circuit; ComponentLink4URL: http://www.analog.com/en/all-operational-amplifiers-op-amps/operational-amplifiers-op-amps/ad8601/products/product.html#product-recommendations
footprint ADI-RJ-5_N (SOT-23, 5-Leads, Body 2.9x1.6mm, Pitch 0.95mm, IPC Medium Density)
footprint ADI-RJ-5_L (SOT-23, 5-Leads, Body 2.9x1.6mm, Pitch 0.95mm, IPC High Density)
footprint ADI-RJ-5_M (SOT-23, 5-Leads, Body 2.9x1.6mm, Pitch 0.95mm, IPC Low Density)
pins: 1 OUT A (out), 2 -V (power), 3 +IN (in), 4 -IN (in), 5 +V (power)

## AD8601WARTZ-R7
designator U?
Single Channel Wide Bandwidth Operational Amplifier, 8.4 MHz BW, 6 V/us SR, Automotive, 5-pin SOT23 (RJ-5), Reel; Generic Part Number: AD8601; Manufacturer: Analog Devices; PartNumber: AD8601WARTZ-R7; Amplifiers Per Package: 1; Automotive Qualified: Yes; Input Bias Current: 200fA; Input Offset Voltage: 80uV; Iq/Amp: 1.2mA; Slew Rate: 6V/us; Small Signal Bandwidth: 8.4MHz; V Span Max: 5.5V; V Span Min: 2.7V; DatasheetVersion: Rev. G; PackageVersion: 121608-A; PackageReference: RJ-5; PackageDescription: 5-Pin Small Outline Transistor Package, Body 2.9 x 1.6 mm, Pitch 0.95 mm; Supplier 1: Digi-Key; Supplier Part Number 1: AD8601WARTZ-R7TR-ND; Supplier 2: Digi-Key; Supplier Part Number 2: AD8601WARTZ-R7CT-ND; Supplier 3: Digi-Key; Supplier Part Number 3: AD8601WARTZ-R7DKR-ND; Mounting Technology: Surface Mount; Code_JEDEC: MO-178-AA; ComponentLink1Description: Manufacturer URL; ComponentLink1URL: http://www.analog.com/en/index.html; ComponentLink2Description: Datasheet; ComponentLink2URL: http://www.analog.com/static/imported-files/data_sheets/AD8601_8602_8604.pdf; ComponentLink3Description: Package Specification; ComponentLink3URL: http://www.analog.com/static/imported-files/packages/PKG_PDF/SOT-23(RJ)/RJ_5.pdf; ComponentLink4Description: Reference Circuit; ComponentLink4URL: http://www.analog.com/en/all-operational-amplifiers-op-amps/operational-amplifiers-op-amps/ad8601/products/product.html#product-recommendations
footprint ADI-RJ-5_N (SOT-23, 5-Leads, Body 2.9x1.6mm, Pitch 0.95mm, IPC Medium Density)
footprint ADI-RJ-5_L (SOT-23, 5-Leads, Body 2.9x1.6mm, Pitch 0.95mm, IPC High Density)
footprint ADI-RJ-5_M (SOT-23, 5-Leads, Body 2.9x1.6mm, Pitch 0.95mm, IPC Low Density)
pins: 1 OUT A (out), 2 -V (power), 3 +IN (in), 4 -IN (in), 5 +V (power)

## AD8601WARTZ-RL
designator U?
Single Channel Wide Bandwidth Operational Amplifier, 8.4 MHz BW, 6 V/us SR, Automotive, 5-pin SOT23 (RJ-5), Reel; Generic Part Number: AD8601; Manufacturer: Analog Devices; PartNumber: AD8601WARTZ-RL; Amplifiers Per Package: 1; Automotive Qualified: Yes; Input Bias Current: 200fA; Input Offset Voltage: 80uV; Iq/Amp: 1.2mA; Slew Rate: 6V/us; Small Signal Bandwidth: 8.4MHz; V Span Max: 5.5V; V Span Min: 2.7V; DatasheetVersion: Rev. G; PackageVersion: 121608-A; PackageReference: RJ-5; PackageDescription: 5-Pin Small Outline Transistor Package, Body 2.9 x 1.6 mm, Pitch 0.95 mm; Supplier 1: Digi-Key; Supplier Part Number 1: AD8601WARTZ-RL-ND; Supplier 2: Newark; Supplier Part Number 2: 76R7629; Mounting Technology: Surface Mount; Code_JEDEC: MO-178-AA; ComponentLink1Description: Manufacturer URL; ComponentLink1URL: http://www.analog.com/en/index.html; ComponentLink2Description: Datasheet; ComponentLink2URL: http://www.analog.com/static/imported-files/data_sheets/AD8601_8602_8604.pdf; ComponentLink3Description: Package Specification; ComponentLink3URL: http://www.analog.com/static/imported-files/packages/PKG_PDF/SOT-23(RJ)/RJ_5.pdf; ComponentLink4Description: Reference Circuit; ComponentLink4URL: http://www.analog.com/en/all-operational-amplifiers-op-amps/operational-amplifiers-op-amps/ad8601/products/product.html#product-recommendations
footprint ADI-RJ-5_N (SOT-23, 5-Leads, Body 2.9x1.6mm, Pitch 0.95mm, IPC Medium Density)
footprint ADI-RJ-5_L (SOT-23, 5-Leads, Body 2.9x1.6mm, Pitch 0.95mm, IPC High Density)
footprint ADI-RJ-5_M (SOT-23, 5-Leads, Body 2.9x1.6mm, Pitch 0.95mm, IPC Low Density)
pins: 1 OUT A (out), 2 -V (power), 3 +IN (in), 4 -IN (in), 5 +V (power)

## AD8601WDRTZ-REEL
designator U?
Single Channel Wide Bandwidth Operational Amplifier, 8.4 MHz BW, 6 V/us SR, Automotive, 5-pin SOT23 (RJ-5), Reel; Generic Part Number: AD8601; Manufacturer: Analog Devices; PartNumber: AD8601WDRTZ-REEL; Amplifiers Per Package: 1; Automotive Qualified: Yes; Input Bias Current: 200fA; Input Offset Voltage: 1.3mV; Iq/Amp: 1.2mA; Slew Rate: 6V/us; Small Signal Bandwidth: 8.4MHz; V Span Max: 5.5V; V Span Min: 2.7V; DatasheetVersion: Rev. G; PackageVersion: 121608-A; PackageReference: RJ-5; PackageDescription: 5-Pin Small Outline Transistor Package, Body 2.9 x 1.6 mm, Pitch 0.95 mm; Supplier 1: Digi-Key; Supplier Part Number 1: AD8601WDRTZ-REEL-ND; Mounting Technology: Surface Mount; Code_JEDEC: MO-178-AA; ComponentLink1Description: Manufacturer URL; ComponentLink1URL: http://www.analog.com/en/index.html; ComponentLink2Description: Datasheet; ComponentLink2URL: http://www.analog.com/static/imported-files/data_sheets/AD8601_8602_8604.pdf; ComponentLink3Description: Package Specification; ComponentLink3URL: http://www.analog.com/static/imported-files/packages/PKG_PDF/SOT-23(RJ)/RJ_5.pdf; ComponentLink4Description: Reference Circuit; ComponentLink4URL: http://www.analog.com/en/all-operational-amplifiers-op-amps/operational-amplifiers-op-amps/ad8601/products/product.html#product-recommendations
footprint ADI-RJ-5_N (SOT-23, 5-Leads, Body 2.9x1.6mm, Pitch 0.95mm, IPC Medium Density)
footprint ADI-RJ-5_L (SOT-23, 5-Leads, Body 2.9x1.6mm, Pitch 0.95mm, IPC High Density)
footprint ADI-RJ-5_M (SOT-23, 5-Leads, Body 2.9x1.6mm, Pitch 0.95mm, IPC Low Density)
pins: 1 OUT A (out), 2 -V (power), 3 +IN (in), 4 -IN (in), 5 +V (power)

## AD8601WDRTZ-REEL7
designator U?
Single Channel Wide Bandwidth Operational Amplifier, 8.4 MHz BW, 6 V/us SR, Automotive, 5-pin SOT23 (RJ-5), Reel; Generic Part Number: AD8601; Manufacturer: Analog Devices; PartNumber: AD8601WDRTZ-REEL7; Amplifiers Per Package: 1; Automotive Qualified: Yes; Input Bias Current: 200fA; Input Offset Voltage: 1.3mV; Iq/Amp: 1.2mA; Slew Rate: 6V/us; Small Signal Bandwidth: 8.4MHz; V Span Max: 5.5V; V Span Min: 2.7V; DatasheetVersion: Rev. G; PackageVersion: 121608-A; PackageReference: RJ-5; PackageDescription: 5-Pin Small Outline Transistor Package, Body 2.9 x 1.6 mm, Pitch 0.95 mm; Supplier 1: Digi-Key; Supplier Part Number 1: AD8601WDRTZ-REEL7TR-ND; Supplier 2: Digi-Key; Supplier Part Number 2: AD8601WDRTZ-REEL7CT-ND; Supplier 3: Digi-Key; Supplier Part Number 3: AD8601WDRTZ-REEL7DKR-ND; Supplier 4: Newark; Supplier Part Number 4: 33R2718; Supplier 5: Newark; Supplier Part Number 5: 67W2811; Mounting Technology: Surface Mount; Code_JEDEC: MO-178-AA; ComponentLink1Description: Manufacturer URL; ComponentLink1URL: http://www.analog.com/en/index.html; ComponentLink2Description: Datasheet; ComponentLink2URL: http://www.analog.com/static/imported-files/data_sheets/AD8601_8602_8604.pdf; ComponentLink3Description: Package Specification; ComponentLink3URL: http://www.analog.com/static/imported-files/packages/PKG_PDF/SOT-23(RJ)/RJ_5.pdf; ComponentLink4Description: Reference Circuit; ComponentLink4URL: http://www.analog.com/en/all-operational-amplifiers-op-amps/operational-amplifiers-op-amps/ad8601/products/product.html#product-recommendations
footprint ADI-RJ-5_N (SOT-23, 5-Leads, Body 2.9x1.6mm, Pitch 0.95mm, IPC Medium Density)
footprint ADI-RJ-5_L (SOT-23, 5-Leads, Body 2.9x1.6mm, Pitch 0.95mm, IPC High Density)
footprint ADI-RJ-5_M (SOT-23, 5-Leads, Body 2.9x1.6mm, Pitch 0.95mm, IPC Low Density)
pins: 1 OUT A (out), 2 -V (power), 3 +IN (in), 4 -IN (in), 5 +V (power)

## AD8602AR
designator U?
Double Channel Wide Bandwidth Operational Amplifier, 8.4 MHz BW, 6 V/us SR, Industrial, 8-pin SOIC (R-8), Tube; Generic Part Number: AD8602; Manufacturer: Analog Devices; PartNumber: AD8602AR; Amplifiers Per Package: 2; Automotive Qualified: Yes; Input Bias Current: 200fA; Input Offset Voltage: 500uV; Iq/Amp: 1.2mA; Slew Rate: 6V/us; Small Signal Bandwidth: 8.4MHz; V Span Max: 6V; V Span Min: 2.7V; DatasheetVersion: Rev. G; PackageVersion: 060506-A; PackageReference: R-8; PackageDescription: 8-Pin Standard Small Outline Package, Body 3.9 x 4.9 mm, Pitch 1.27 mm; Supplier 1: Digi-Key; Supplier Part Number 1: AD8602AR-ND; Mounting Technology: Surface Mount; Code_JEDEC: MS-012-AA; ComponentLink1Description: Manufacturer URL; ComponentLink1URL: http://www.analog.com/en/index.html; ComponentLink2Description: Datasheet; ComponentLink2URL: http://www.analog.com/static/imported-files/data_sheets/AD8601_8602_8604.pdf; ComponentLink3Description: Package Specification; ComponentLink3URL: http://www.analog.com/static/imported-files/packages/PKG_PDF/SOIC_Narrow%20(R)/R_8.pdf
footprint ADI-R-8_N (SOIC, 8-Leads, Body 4.9x3.9mm, Pitch 1.27mm, IPC Medium Density)
footprint ADI-R-8_L (SOIC, 8-Leads, Body 4.9x3.9mm, Pitch 1.27mm, IPC High Density)
footprint ADI-R-8_M (SOIC, 8-Leads, Body 4.9x3.9mm, Pitch 1.27mm, IPC Low Density)
pins on every part: 4 -V (power), 8 +V (power)
part A pins: 1 OUT A (out), 2 -IN A (in), 3 +IN A (in)
part B pins: 5 +IN B (in), 6 -IN B (in), 7 OUT B (out)

## AD8602AR-REEL
designator U?
Double Channel Wide Bandwidth Operational Amplifier, 8.4 MHz BW, 6 V/us SR, Industrial, 8-pin SOIC (R-8), Reel; Generic Part Number: AD8602; Manufacturer: Analog Devices; PartNumber: AD8602AR-REEL; Amplifiers Per Package: 2; Automotive Qualified: Yes; Input Bias Current: 200fA; Input Offset Voltage: 500uV; Iq/Amp: 1.2mA; Slew Rate: 6V/us; Small Signal Bandwidth: 8.4MHz; V Span Max: 6V; V Span Min: 2.7V; DatasheetVersion: Rev. G; PackageVersion: 060506-A; PackageReference: R-8; PackageDescription: 8-Pin Standard Small Outline Package, Body 3.9 x 4.9 mm, Pitch 1.27 mm; Supplier 1: Digi-Key; Supplier Part Number 1: AD8602AR-REEL-ND; Mounting Technology: Surface Mount; Code_JEDEC: MS-012-AA; ComponentLink1Description: Manufacturer URL; ComponentLink1URL: http://www.analog.com/en/index.html; ComponentLink2Description: Datasheet; ComponentLink2URL: http://www.analog.com/static/imported-files/data_sheets/AD8601_8602_8604.pdf; ComponentLink3Description: Package Specification; ComponentLink3URL: http://www.analog.com/static/imported-files/packages/PKG_PDF/SOIC_Narrow%20(R)/R_8.pdf
footprint ADI-R-8_N (SOIC, 8-Leads, Body 4.9x3.9mm, Pitch 1.27mm, IPC Medium Density)
footprint ADI-R-8_L (SOIC, 8-Leads, Body 4.9x3.9mm, Pitch 1.27mm, IPC High Density)
footprint ADI-R-8_M (SOIC, 8-Leads, Body 4.9x3.9mm, Pitch 1.27mm, IPC Low Density)
pins on every part: 4 -V (power), 8 +V (power)
part A pins: 1 OUT A (out), 2 -IN A (in), 3 +IN A (in)
part B pins: 5 +IN B (in), 6 -IN B (in), 7 OUT B (out)

## AD8602AR-REEL7
designator U?
Double Channel Wide Bandwidth Operational Amplifier, 8.4 MHz BW, 6 V/us SR, Industrial, 8-pin SOIC (R-8), Reel; Generic Part Number: AD8602; Manufacturer: Analog Devices; PartNumber: AD8602AR-REEL7; Amplifiers Per Package: 2; Automotive Qualified: Yes; Input Bias Current: 200fA; Input Offset Voltage: 500uV; Iq/Amp: 1.2mA; Slew Rate: 6V/us; Small Signal Bandwidth: 8.4MHz; V Span Max: 6V; V Span Min: 2.7V; DatasheetVersion: Rev. G; PackageVersion: 060506-A; PackageReference: R-8; PackageDescription: 8-Pin Standard Small Outline Package, Body 3.9 x 4.9 mm, Pitch 1.27 mm; Supplier 1: Digi-Key; Supplier Part Number 1: AD8602AR-REEL7TR-ND; Supplier 2: Digi-Key; Supplier Part Number 2: AD8602AR-REEL7CT-ND; Supplier 3: Digi-Key; Supplier Part Number 3: AD8602AR-REEL7DKR-ND; Mounting Technology: Surface Mount; Code_JEDEC: MS-012-AA; ComponentLink1Description: Manufacturer URL; ComponentLink1URL: http://www.analog.com/en/index.html; ComponentLink2Description: Datasheet; ComponentLink2URL: http://www.analog.com/static/imported-files/data_sheets/AD8601_8602_8604.pdf; ComponentLink3Description: Package Specification; ComponentLink3URL: http://www.analog.com/static/imported-files/packages/PKG_PDF/SOIC_Narrow%20(R)/R_8.pdf
footprint ADI-R-8_N (SOIC, 8-Leads, Body 4.9x3.9mm, Pitch 1.27mm, IPC Medium Density)
footprint ADI-R-8_L (SOIC, 8-Leads, Body 4.9x3.9mm, Pitch 1.27mm, IPC High Density)
footprint ADI-R-8_M (SOIC, 8-Leads, Body 4.9x3.9mm, Pitch 1.27mm, IPC Low Density)
pins on every part: 4 -V (power), 8 +V (power)
part A pins: 1 OUT A (out), 2 -IN A (in), 3 +IN A (in)
part B pins: 5 +IN B (in), 6 -IN B (in), 7 OUT B (out)

## AD8602ARM-REEL
designator U?
Double Channel Wide Bandwidth Operational Amplifier, 8.4 MHz BW, 6 V/us SR, Industrial, 8-pin SOP (RM-8), Reel; Generic Part Number: AD8602; Manufacturer: Analog Devices; PartNumber: AD8602ARM-REEL; Amplifiers Per Package: 2; Automotive Qualified: Yes; Input Bias Current: 200fA; Input Offset Voltage: 500uV; Iq/Amp: 1.2mA; Slew Rate: 6V/us; Small Signal Bandwidth: 8.4MHz; V Span Max: 6V; V Span Min: 2.7V; DatasheetVersion: Rev. G; PackageReference: RM-8; PackageDescription: 8-Pin Mini Small Outline Package, Body 3 x 3 mm, Pitch 0.65 mm; Supplier 1: Digi-Key; Supplier Part Number 1: AD8602ARM-REELTR-ND; Supplier 2: Digi-Key; Supplier Part Number 2: AD8602ARM-REELCT-ND; Supplier 3: Digi-Key; Supplier Part Number 3: AD8602ARM-REELDKR-ND; Mounting Technology: Surface Mount; Code_JEDEC: MO-187-AA; ComponentLink1Description: Manufacturer URL; ComponentLink1URL: http://www.analog.com/en/index.html; ComponentLink2Description: Datasheet; ComponentLink2URL: http://www.analog.com/static/imported-files/data_sheets/AD8601_8602_8604.pdf; ComponentLink3Description: Package Specification; ComponentLink3URL: http://www.analog.com/static/imported-files/packages/PKG_PDF/MSOP%28RM%29/RM_8.pdf
footprint ADI-RM-8_N (SOP, 8-Leads, Body 3x3mm, Pitch 0.65mm, IPC Medium Density)
footprint ADI-RM-8_L (SOP, 8-Leads, Body 3x3mm, Pitch 0.65mm, IPC High Density)
footprint ADI-RM-8_M (SOP, 8-Leads, Body 3x3mm, Pitch 0.65mm, IPC Low Density)
pins on every part: 4 -V (power), 8 +V (power)
part A pins: 1 OUT A (out), 2 -IN A (in), 3 +IN A (in)
part B pins: 5 +IN B (in), 6 -IN B (in), 7 OUT B (out)